# EAGLE library part 12AJ6 (library tubes_pmillett)
Triode plus dual diode, base 7BT
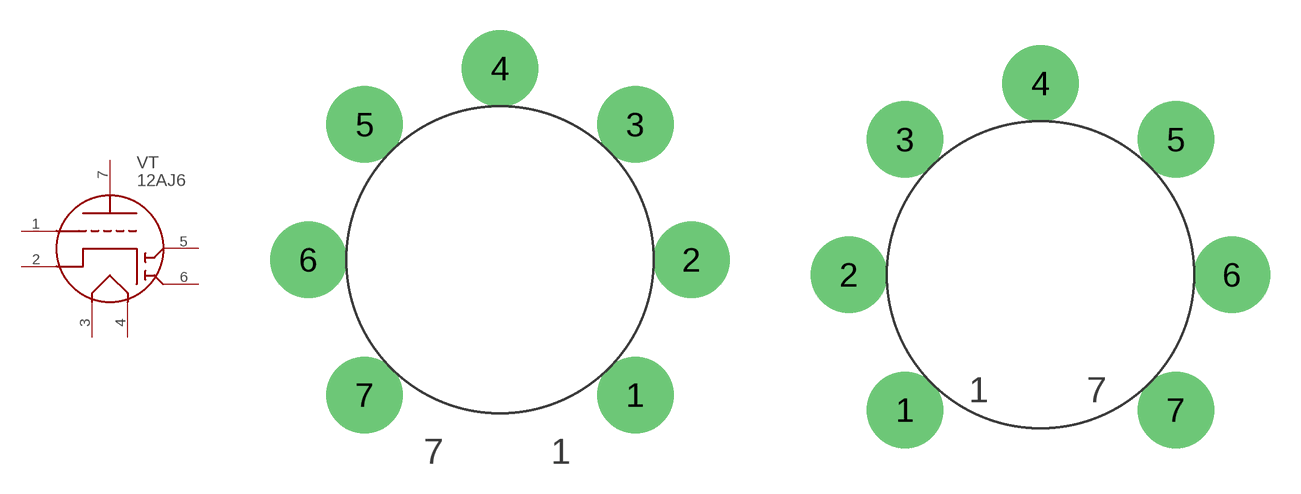
[diagram p206: symbol with the pads of MINI7_PCB; footprints MINI7_PCB, MINI7_PCB_BOT]

Designator prefix VT

## 12AJ6_TOP  [MINI7_PCB]
1  1  pas
2  2  pas
3  3  pas
4  4  pas
5  5  pas
6  6  pas
7  7  pas

## 12AJ6  [MINI7_PCB_BOT]
Pads as for MINI7_PCB

## Footprint MINI7_PCB (pad centres in mm)
TUBE SOCKET, 7-PIN MINI, .75 CIRCLE
drill 1.93 pad 3.81: 1 6.731,-6.731; 2 9.525,0; 3 6.731,6.731; 4 0,9.525; 5 -6.731,6.731; 6 -9.525,0; 7 -6.731,-6.731

## Footprint MINI7_PCB_BOT (pad centres in mm)
Standard 7-pin-mini PCB socket, mounted backside
drill 1.93 pad 3.81: 1 -6.731,-6.731; 2 -9.525,0; 3 -6.731,6.731; 4 0,9.525; 5 6.731,6.731; 6 9.525,0; 7 6.731,-6.731